# Altium integrated library SMAconnector.IntLib: 1 symbol
Pins are listed as number, name and electrical type; pins without a type are passive.

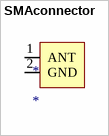
[diagram p0: symbol SMAconnector]

## SMAconnector
designator *
footprint SMAconnector
pins: 1 ANT, 2 GND